# Altium schematic symbol library Logic.SchLib: 17 symbols
Pins are listed as number, name and electrical type; pins without a type are passive.

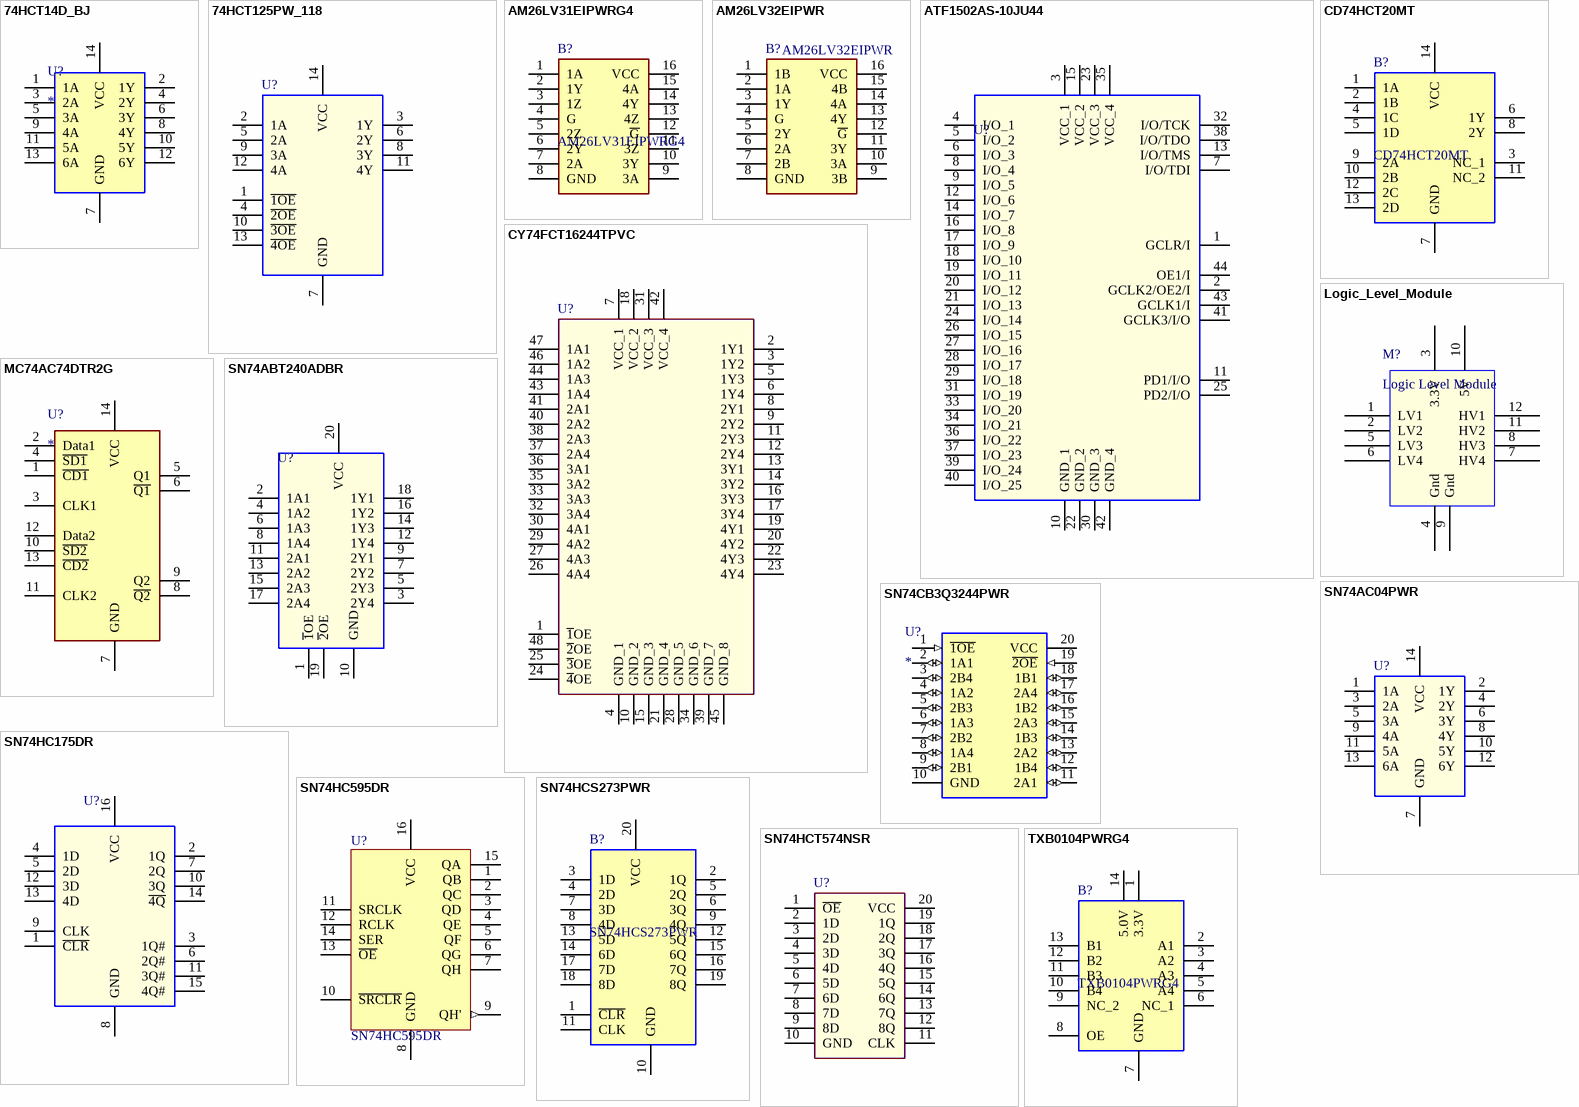
[diagram p0: symbols 74HCT14D_BJ to TXB0104PWRG4]

## 74HCT14D_BJ
designator U?
Inveter
footprint SOIC127P600X175-14N
pins: 1 1A, 2 1Y, 3 2A, 4 2Y, 5 3A, 6 3Y, 7 GND, 8 4Y, 9 4A, 10 5Y, 11 5A, 12 6Y, 13 6A, 14 VCC

## 74HCT125PW_118
designator U?
74HC(T)125 - Quad buffer/line driver; 3-state@en-us; Manufacturer_Name: Nexperia; Manufacturer_Part_Number: 74HCT125PW,118; Geometry.Height: 1.1mm; Mouser Part Number: 771-74HCT125PW-T; Mouser Price/Stock: https://www.mouser.co.uk/ProductDetail/Nexperia/74HCT125PW118?qs=P62ublwmbi%2FYv669GMNnaw%3D%3D; Datasheet Link: https://assets.nexperia.com/documents/data-sheet/74HC_HCT125.pdf
footprint SOP65P640X110-14N
pins: 1 ~{1OE}, 2 1A, 3 1Y, 4 ~{2OE}, 5 2A, 6 2Y, 7 GND, 8 3Y, 9 3A, 10 ~{3OE}, 11 4Y, 12 4A, 13 ~{4OE}, 14 VCC

## AM26LV31EIPWRG4
designator B?
Buffers & Line Drivers LoVltg Hi-Sp Quad Diff Line Drvr; Manufacturer_Name: Texas Instruments; Geometry.Height: 1.2mm; Mouser Part Number: 595-AM26LV31EIPWRG4; Mouser Price/Stock: https://www.mouser.co.uk/ProductDetail/Texas-Instruments/AM26LV31EIPWRG4?qs=59Rn2Bt6jP0kFlxsCoFXNA%3D%3D; Manufacturer_Part_Number: AM26LV31EIPWRG4; Datasheet Link: http://www.ti.com/general/docs/suppproductinfo.tsp?distId=10&gotoUrl=http%3A%2F%2Fwww.ti.com%2Flit%2Fgpn%2Fam26lv31e
footprint SOP65P640X120-16N
pins: 1 1A, 2 1Y, 3 1Z, 4 G, 5 2Z, 6 2Y, 7 2A, 8 GND, 9 3A, 10 3Y, 11 3Z, 12 ~{G}, 13 4Z, 14 4Y, 15 4A, 16 VCC

## AM26LV32EIPWR
designator B?
Low-Voltage High-Speed Quadruple Differential Line Receiver With +/-15-kV IEC ESD; Manufacturer_Name: Texas Instruments; Geometry.Height: 1.2mm; Mouser Part Number: 595-AM26LV32EIPWR; Mouser Price/Stock: https://www.mouser.co.uk/ProductDetail/Texas-Instruments/AM26LV32EIPWR?qs=iW8OfOTwbwMs71vWcC8tjQ%3D%3D; Manufacturer_Part_Number: AM26LV32EIPWR; Datasheet Link: http://www.ti.com/lit/gpn/am26lv32e
footprint SOP65P640X120-16N
pins: 1 1B, 2 1A, 3 1Y, 4 G, 5 2Y, 6 2A, 7 2B, 8 GND, 9 3B, 10 3A, 11 3Y, 12 ~{G}, 13 4Y, 14 4A, 15 4B, 16 VCC

## ATF1502AS-10JU44
designator U?
ATF1502AS-10JU44, CPLD ATF1502AS EEPROM 32 Cells, 32 I/O, 2 Labs, 10ns, ISP, 4.75  5.25 V 44-Pin PLCC; Manufacturer_Name: Microchip; Geometry.Height: 4.572mm; Mouser Part Number: 556-AF1502AS10JU44; Mouser Price/Stock: https://www.mouser.co.uk/ProductDetail/Microchip-Technology-Atmel/ATF1502AS-10JU44?qs=fH4tvdCgwtOmGOXETrb9sw%3D%3D; Manufacturer_Part_Number: ATF1502AS-10JU44; Datasheet Link: http://ww1.microchip.com/downloads/en/DeviceDoc/Atmel-0995-CPLD-ATF1502AS(L)-Datasheet.pdf
footprint PLCC-44N
pins: 1 GCLR/I, 2 GCLK2/OE2/I, 3 VCC_1, 4 I/O_1, 5 I/O_2, 6 I/O_3, 7 I/O/TDI, 8 I/O_4, 9 I/O_5, 10 GND_1, 11 PD1/I/O, 12 I/O_6, 13 I/O/TMS, 14 I/O_7, 15 VCC_2, 16 I/O_8, 17 I/O_9, 18 I/O_10, 19 I/O_11, 20 I/O_12, 21 I/O_13, 22 GND_2, 23 VCC_3, 24 I/O_14, 25 PD2/I/O, 26 I/O_15, 27 I/O_16, 28 I/O_17, 29 I/O_18, 30 GND_3, 31 I/O_19, 32 I/O/TCK, 33 I/O_20, 34 I/O_21, 35 VCC_4, 36 I/O_22, 37 I/O_23, 38 I/O/TDO, 39 I/O_24, 40 I/O_25, 41 GCLK3/I/O, 42 GND_4, 43 GCLK1/I, 44 OE1/I

## CD74HCT20MT
designator B?
Texas Instruments CD74HCT20MT, Dual 4-Input NAND Logic Gate, 14-Pin SOIC; Geometry.Height: 1.75mm; Mouser Part Number: 595-CD74HCT20MT; Mouser Price/Stock: https://www.mouser.co.uk/ProductDetail/Texas-Instruments/CD74HCT20MT?qs=xFfolx0DHx2dg0PqLn7e%252Bw%3D%3D; Manufacturer_Name: Texas Instruments; Manufacturer_Part_Number: CD74HCT20MT; Datasheet Link: https://www.ti.com/general/docs/suppproductinfo.tsp?distId=10&gotoUrl=https%3A%2F%2Fwww.ti.com%2Flit%2Fgpn%2Fcd74hct20
footprint SOIC127P600X175-14N
pins: 1 1A, 2 1B, 3 NC_1, 4 1C, 5 1D, 6 1Y, 7 GND, 8 2Y, 9 2A, 10 2B, 11 NC_2, 12 2C, 13 2D, 14 VCC

## CY74FCT16244TPVC
designator U?
16-Bit Buffers/Drivers with 3-State Outputs; Manufacturer_Name: Texas Instruments; Geometry.Height: 2.79mm; Mouser Part Number: 595-CY74FCT16244TPVC; Mouser Price/Stock: https://www.mouser.co.uk/ProductDetail/Texas-Instruments/CY74FCT16244TPVC?qs=vul0MlC%2Fa1eu%2FYdtT7AvpQ%3D%3D; Manufacturer_Part_Number: CY74FCT16244TPVC; Datasheet Link: http://www.ti.com/lit/gpn/CY74FCT16244T
footprint SSOP-48
pins: 1 ~{1}OE, 2 1Y1, 3 1Y2, 4 GND_1, 5 1Y3, 6 1Y4, 7 VCC_1, 8 2Y1, 9 2Y2, 10 GND_2, 11 2Y3, 12 2Y4, 13 3Y1, 14 3Y2, 15 GND_3, 16 3Y3, 17 3Y4, 18 VCC_2, 19 4Y1, 20 4Y2, 21 GND_4, 22 4Y3, 23 4Y4, 24 ~{4}OE, 25 ~{3}OE, 26 4A4, 27 4A3, 28 GND_5, 29 4A2, 30 4A1, 31 VCC_3, 32 3A4, 33 3A3, 34 GND_6, 35 3A2, 36 3A1, 37 2A4, 38 2A3, 39 GND_7, 40 2A2, 41 2A1, 42 VCC_4, 43 1A4, 44 1A3, 45 GND_8, 46 1A2, 47 1A1, 48 ~{2}OE

## Logic_Level_Module
designator M?, comment Logic Level Module
Logic Level Converter Module
footprint Logic_Level_Module
pins: 1 LV1, 2 LV2, 3 3.3V, 4 Gnd, 5 LV3, 6 LV4, 7 HV4, 8 HV3, 9 Gnd, 10 5V, 11 HV2, 12 HV1

## MC74AC74DTR2G
designator U?
FlipFlop
footprint SOP65P640X120-14N
pins: 1 ~{CD1}, 2 Data1, 3 CLK1, 4 ~{SD1}, 5 Q1, 6 ~{Q1}, 7 GND, 8 ~{Q2}, 9 Q2, 10 ~{SD2}, 11 CLK2, 12 Data2, 13 ~{CD2}, 14 VCC

## SN74ABT240ADBR
designator U?
Octal Buffers/Drivers With 3-State Outputs; Manufacturer_Name: Texas Instruments; Geometry.Height: 2mm; Mouser Part Number: 595-SN74ABT240ADBR; Mouser Price/Stock: https://www.mouser.co.uk/ProductDetail/Texas-Instruments/SN74ABT240ADBR?qs=JHHQeKcAU3Dt82k%252BVyiYdw%3D%3D; Manufacturer_Part_Number: SN74ABT240ADBR; Datasheet Link: http://www.ti.com/lit/gpn/sn74abt240a
footprint SOP65P780X200-20N
pins: 1 ~{1}OE, 2 1A1, 3 2Y4, 4 1A2, 5 2Y3, 6 1A3, 7 2Y2, 8 1A4, 9 2Y1, 10 GND, 11 2A1, 12 1Y4, 13 2A2, 14 1Y3, 15 2A3, 16 1Y2, 17 2A4, 18 1Y1, 19 ~{2}OE, 20 VCC

## SN74AC04PWR
designator U?
Hex Inverters; Manufacturer_Name: Texas Instruments; Geometry.Height: 1.2mm; Mouser Part Number: 595-SN74AC04PWR; Mouser Price/Stock: https://www.mouser.co.uk/ProductDetail/Texas-Instruments/SN74AC04PWR?qs=RZS%252BpEsUn7pRvPNqsga4SA%3D%3D; Manufacturer_Part_Number: SN74AC04PWR; Datasheet Link: http://www.ti.com/lit/gpn/sn74ac04
footprint SOP65P640X120-14N
pins: 1 1A, 2 1Y, 3 2A, 4 2Y, 5 3A, 6 3Y, 7 GND, 8 4Y, 9 4A, 10 5Y, 11 5A, 12 6Y, 13 6A, 14 VCC

## SN74CB3Q3244PWR
designator U?
SN74CB3Q3244PWR Digital Bus Switch SMD; Manufacturer_Name: Texas Instruments; Datasheet Link: http://www.ti.com/lit/gpn/sn74cb3q3244; Height: 1.2mm; Manufacturer_Part_Number: SN74CB3Q3244PWR; Arrow Part Number: SN74CB3Q3244PWR
footprint TSSOP-20
pins: 1 ~{1OE} (in), 2 1A1 (io), 3 2B4 (io), 4 1A2 (io), 5 2B3 (io), 6 1A3 (io), 7 2B2 (io), 8 1A4 (io), 9 2B1 (io), 10 GND (power), 11 2A1 (io), 12 1B4 (io), 13 2A2 (io), 14 1B3 (io), 15 2A3 (io), 16 1B2 (io), 17 2A4 (io), 18 1B1 (io), 19 ~{2OE} (in), 20 VCC (power)

## SN74HC175DR
designator U?
SN74HC175DR, D Type Flip Flop HC, 2  6 V 16-Pin SOIC; Manufacturer_Name: Texas Instruments; Geometry.Height: 1.75mm; Mouser Part Number: 595-SN74HC175DR; Mouser Price/Stock: https://www.mouser.co.uk/ProductDetail/Texas-Instruments/SN74HC175DR?qs=fvkeCqCHl3C4DSbwnW929w%3D%3D; Manufacturer_Part_Number: SN74HC175DR; Datasheet Link: http://www.ti.com/lit/ds/symlink/sn74hc175.pdf
footprint SOIC_16_Narrow
pins: 1 ~{CLR}, 2 1Q, 3 1Q#, 4 1D, 5 2D, 6 2Q#, 7 2Q, 8 GND (power), 9 CLK, 10 3Q, 11 3Q#, 12 3D, 13 4D, 14 ~{4Q}, 15 4Q#, 16 VCC (power)

## SN74HC595DR
designator U?
8-Bit Shift Registers With 3-State Output Registers, D0016A, LARGE T&R; Manufacturer: Texas Instruments; Output Drive (IOL/IOH)(Max)(mA): 7.8/-7.8; Rating: Military; ICC @ Nom Voltage(Max)(mA): 0.08; VCC(Min)(V): 2; tpd @ Nom Voltage(Max)(ns): 34; 3-State Output: Yes; Output Type: CMOS; Voltage(Nom)(V): 6; F @ Nom Voltage(Max)(Mhz): 28; Technology Family: HC; Bits: 4; Max Supply Voltage: 6V; Min Supply Voltage: 2V; Propagation Delay: 250ns; Number of Elements: 1; Number of Output Lines: 10; Direction: Unidirectional; Number of Bits: 8; Quiescent Current: 8uA; Operating Supply Voltage: 5V; Frequency: 42MHz; Max Input Current: 1uA; PackageReference: D0016A; Code_JEDEC: MS-012 variation AC; Generic Part Number: SN74HC595; Operating Temperature Range(C): -40 to 85; DatasheetVersion: SCLS041H; PackageVersion: http://www.ti.com/lit/ml/mpds178g/mpds178g.pdf; Input Type: CMOS; VCC(Max)(V): 6; Supplier 1: Digi-Key; Supplier Part Number 1: 296-14857-1-ND; Manufacturer Part Number: SN74HC595DR; Stock 1: 38406; Pricing 1: 1=0.51000, 10=0.43300, 100=0.32300, 500=0.25380, 1000=0.19611 (USD); RoHS: Yes; Mount: Surface Mount; Case/Package: SOIC; Number of Pins: 16; Weight: 0.004998oz; Contact Plating: Gold; Min Operating Temperature: -40°C; Max Operating Temperature: 85°C; Packaging: Tape and Reel; Package Quantity: 2500; Logic Function: Shift Register; Number of Circuits: 4; Number of Bits per Element: 8; Turn-On Delay Time: 250ns; Termination: SMD/SMT; Length: 9.9mm; Height: 1.58mm; Width: 3.91mm; Radiation Hardening: No; REACH SVHC: No SVHC; Lead Free: Lead Free; ComponentLink1URL: https://datasheet.ciiva.com/15093/getdatasheetpartid-134875-15093436.pdf?src-supplier=Verical; ComponentLink1Description: https://datasheet.ciiva.com/15093/getdatasheetpartid-134875-15093436.pdf?src-supplier=Verical; ComponentLink2URL: https://datasheet.ciiva.com/22696/1831198-22696812.pdf?src-supplier=Element14; ComponentLink2Description: https://datasheet.ciiva.com/22696/1831198-22696812.pdf?src-supplier=Element14; ComponentLink3URL: https://datasheet.ciiva.com/34301/916385-34301758.pdf?src-supplier=Jameco; ComponentLink3Description: https://datasheet.ciiva.com/34301/916385-34301758.pdf?src-supplier=Jameco; ComponentLink4URL: https://datasheet.ciiva.com/26866/sn74hc595dr-26866161.pdf?src-supplier=IIIC; ComponentLink4Description: https://datasheet.ciiva.com/26866/sn74hc595dr-26866161.pdf?src-supplier=IIIC; ComponentLink5URL: https://datasheet.ciiva.com/1886/sn74hc595-1886279.pdf?src-supplier=Digi-Key; ComponentLink5Description: https://datasheet.ciiva.com/1886/sn74hc595-1886279.pdf?src-supplier=Digi-Key; ComponentLink6URL: https://datasheet.ciiva.com/1886/sn74hc595-1886280.pdf?src-supplier=Digi-Key; ComponentLink6Description: https://datasheet.ciiva.com/1886/sn74hc595-1886280.pdf?src-supplier=Digi-Key; ComponentLink7URL: https://datasheet.ciiva.com/1886/sn74hc595-1886281.pdf?src-supplier=Digi-Key; ComponentLink7Description: https://datasheet.ciiva.com/1886/sn74hc595-1886281.pdf?src-supplier=Digi-Key; ComponentLink8URL: https://datasheet.ciiva.com/1509/1831198-1509483.pdf?src-supplier=Element14; ComponentLink8Description: https://datasheet.ciiva.com/1509/1831198-1509483.pdf?src-supplier=Element14; ComponentLink9URL: https://datasheet.ciiva.com/46381/1886142-46381835.pdf?src-supplier=Element14; ComponentLink9Description: https://datasheet.ciiva.com/46381/1886142-46381835.pdf?src-supplier=Element14; ComponentLink10URL: https://datasheet.ciiva.com/14294/sn74hc595-14294989.pdf?src-supplier=Avnet; ComponentLink10Description: https://datasheet.ciiva.com/14294/sn74hc595-14294989.pdf?src-supplier=Avnet; ComponentLink11URL: https://datasheet.ciiva.com/14294/sn74hc595-14294991.pdf?src-supplier=Avnet; ComponentLink11Description: https://datasheet.ciiva.com/14294/sn74hc595-14294991.pdf?src-supplier=Avnet; ComponentLink12URL: https://datasheet.ciiva.com/46435/1831198-46435871.pdf?src-supplier=Element14; ComponentLink12Description: https://datasheet.ciiva.com/46435/1831198-46435871.pdf?src-supplier=Element14
footprint SOIC_16_Narrow
pins: 1 QB (hiz) "QB Output", 2 QC (hiz) "QC Output", 3 QD (hiz) "QD Output", 4 QE (hiz) "QE Output", 5 QF (hiz) "QF Output", 6 QG (hiz) "QG Output", 7 QH (hiz) "QH Output", 8 GND (power) "Ground Pin", 9 QH' (out) "QH' Output", 10 ~{SRCLR} "S\R\C\L\R\ Input", 11 SRCLK "SRCLK Input", 12 RCLK "RCLK Input", 13 ~{OE} "Output Enable Pin", 14 SER "SER Input", 15 QA (hiz) "QA Output", 16 VCC (power) "Power Pin"

## SN74HCS273PWR
designator B?
Flip Flops Octal D-type flip-flops with clear with Schmitt-trigger inputs; Manufacturer_Name: Texas Instruments; Geometry.Height: 1.2mm; Mouser Part Number: 595-SN74HCS273PWR; Mouser Price/Stock: https://www.mouser.co.uk/ProductDetail/Texas-Instruments/SN74HCS273PWR?qs=QNEnbhJQKvYIJo9rBWLKyw%3D%3D; Manufacturer_Part_Number: SN74HCS273PWR; Datasheet Link: https://www.ti.com/general/docs/suppproductinfo.tsp?distId=26&gotoUrl=https://www.ti.com/lit/gpn/sn74hcs273
footprint SOP65P640X120-20N
pins: 1 ~{CLR}, 2 1Q, 3 1D, 4 2D, 5 2Q, 6 3Q, 7 3D, 8 4D, 9 4Q, 10 GND, 11 CLK, 12 5Q, 13 5D, 14 6D, 15 6Q, 16 7Q, 17 7D, 18 8D, 19 8Q, 20 VCC

## SN74HCT574NSR
designator U?
Octal Edge-Triggered D-Type Flip-Flops With 3-State Outputs; Manufacturer_Name: Texas Instruments; Geometry.Height: 2mm; Mouser Part Number: 595-SN74HCT574NSR; Mouser Price/Stock: https://www.mouser.co.uk/ProductDetail/Texas-Instruments/SN74HCT574NSR?qs=SL3LIuy2dWyGQcrFzWcuHw%3D%3D; Manufacturer_Part_Number: SN74HCT574NSR; Datasheet Link: http://www.ti.com/lit/gpn/SN74HCT574
footprint SOIC_20_Narrow
pins: 1 ~{OE}, 2 1D, 3 2D, 4 3D, 5 4D, 6 5D, 7 6D, 8 7D, 9 8D, 10 GND, 11 CLK, 12 8Q, 13 7Q, 14 6Q, 15 5Q, 16 4Q, 17 3Q, 18 2Q, 19 1Q, 20 VCC

## TXB0104PWRG4
designator B?
Texas Instruments TXB0104PWRG4, Voltage Level Translator, 3-State, 1.2  3.6 V, 1.65  5.5 V, 14-Pin TSSOP; Geometry.Height: 1.2mm; Mouser Part Number: 595-TXB0104PWRG4; Mouser Price/Stock: https://www.mouser.co.uk/ProductDetail/Texas-Instruments/TXB0104PWRG4?qs=oFXvjAmG9EjoQ0gyZ%252BZWbg%3D%3D; Manufacturer_Name: Texas Instruments; Manufacturer_Part_Number: TXB0104PWRG4; Datasheet Link: https://datasheet.datasheetarchive.com/originals/distributors/SFDatasheet-6/sf-000131436.pdf
footprint SOP65P640X120-14N
pins: 1 3.3V, 2 A1, 3 A2, 4 A3, 5 A4, 6 NC_1, 7 GND, 8 OE, 9 NC_2, 10 B4, 11 B3, 12 B2, 13 B1, 14 5.0V